# Altium footprint library Flex_C_0603(1608).PcbLib: 1 footprints
Each footprint in its own frame and in the unit in brackets; x right, y up, seen from the top. Pads: shape width x height; smd on the part's side, far side on the other; paste and mask are expansions set on the pad; w line width, h text height; cw(c..) or ccw(c..) is an arc to the next point about the centre after c.
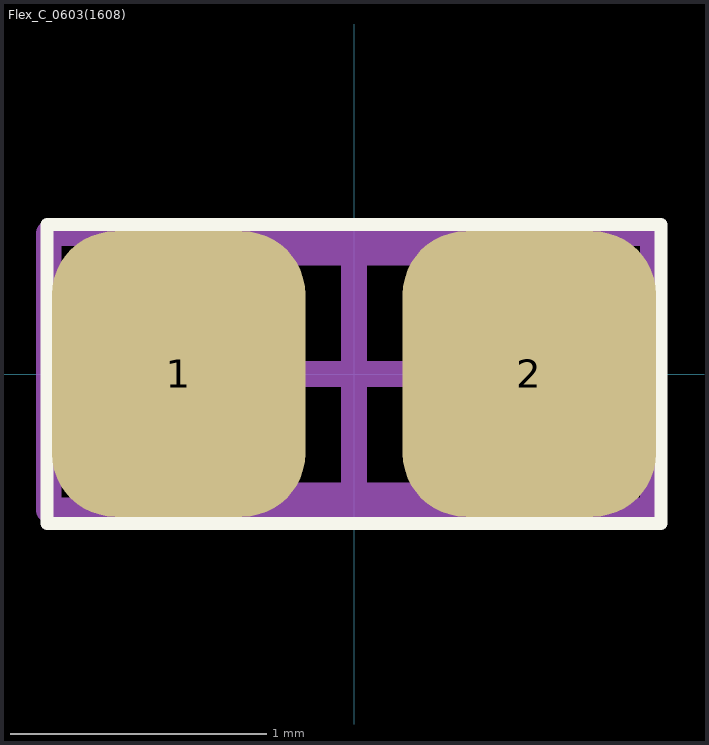
[diagram p0: the footprint, top view; thin cyan lines are the x and y axes]

## Flex_C_0603(1608) [mil] "Chip Capacitor, Body 1.6x0.8mm, Flex"
height 33.46
pads (2):
  rrect50% 39x44 smd paste-5.91 mask-3.94: 1(-27,0) 2(27,0)
Top Overlay:
  lines w2: -47.24,-23 47.24,-23 47.24,23 -47.24,23 -47.24,-23
Mechanical 13:
  lines w3.94: -34.45,-18.7 -34.45,18.7 34.45,18.7 34.45,-18.7 -34.45,-18.7
Mechanical 15:
  lines w3.94: -18.7,0 18.7,0 ; 0,-18.7 0,18.7 ; -47,-21 -47,21.65 -43.31,21.65 46,21.65 46,-21 -47,-21
3D body: height 33.46, standoff 0, extent -34.45,-18.7 34.45,18.7